# Altium schematic symbol library CapElect_passive.SchLib: 9 symbols
Pins are listed as number, name and electrical type; pins without a type are passive.

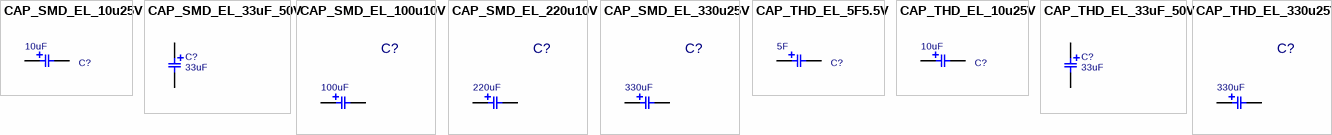
[diagram p0: symbols CAP_SMD_EL_10u25V to CAP_THD_EL_330u25V]

## CAP_SMD_EL_10u25V
designator C?, comment 10uF
CAP, SMD, ELEC, 10uF, 25V; MANF_P#: MANF_PART#; PARAM: 25V; MANF: MANF; PARAM2: PARAM2; VALUE: 10uF
footprint C_EL_4 (Electrolytic Capacitor, D: 4.3mm)
pins: 1, 2

## CAP_SMD_EL_33uF_50V
designator C?, comment 33uF
CAP, THD, ELEC; PARAM: 20%, 40mOhm, -55~125oC; DESC: Aluminum Organic Polymer; MANF: United Chemi-Con; MANF_P#: HHXB500ARA330MF80G; PARAM2: 50V; PRICE: 0.14$; VALUE: 33uF
footprint C_EL_6_8 (Footprint not found)
pins: 1, 2

## CAP_SMD_EL_100u10V
designator C?, comment 100uF
CAP, SMDD, ELEC, 100uF, 10V; MANF_P#: 875105242010; MANF: Wurth Electronics; DESC: Aluminum Organic Polymer; DIST#: MOUSER; PARAM: 20%, 30mOhmESR, -55~105oC; PRICE: 0.56$; PARAM2: 10V; ASSEMBLY: ASSEMBLY; VALUE: 100uF
footprint C_EL_5 (Electrolytic Cap, D: 5.0mm, L: 5.8mm, Size C)
pins: 1, 2

## CAP_SMD_EL_220u10V
designator C?, comment 220uF
CAP, SMDD, ELEC, 220uF, 10V; MANF_P#: 875105244013; MANF: Wurth Electronics; DESC: Aluminum Organic Polymer; DIST#: MOUSER; PARAM: 20%, 30mOhmESR, -55~105oC; PRICE: 0.66$; PARAM2: 10V; ASSEMBLY: ASSEMBLY; VALUE: 220uF
footprint C_EL_6_6 (Electrolytic Cap, D: 6.3mm L: 5.8mm, Size D)
pins: 1, 2

## CAP_SMD_EL_330u25V
designator C?, comment 330uF
CAP, SMDD, ELEC, 330uF, 25V; MANF_P#: EEE-1EA331UP; PARAM2: 20%; MANF: PANASONIC; DESC: DESCRIPTION; DIST#: MOUSER; PRICE: 10= 5$; ASSEMBLY: ASSEMBLY; PARAM: 25V; VALUE: 330uF
footprint C_EL_8 (Electrolytic Capacitor, Size E, Size F, 8X10)
pins: 1, 2

## CAP_THD_EL_5F5.5V
designator C?, comment 5F
CAP, SMD, ELEC, 5F, 5.5V; MANF: Illinois Capacitor; MANF_P#: DGH505Q5R5; PARAM: 5F; PARAM2: 5.5V; PRICE: 4.6$; VALUE: 5F
footprint C_EL_26X13X27 (Cap Elec, 26X13X27mm, 18mm pitch)
pins: 1, 2

## CAP_THD_EL_10u25V
designator C?, comment 10uF
CAP, THD, ELEC, 10uF, 25V; MANF_P#: MANF_PART#; PARAM: 25V; MANF: MANF; PARAM2: PARAM2; VALUE: 10uF
footprint C_EL_4X7 (Cap Elec dia:4mm height: 7mm pitch: 1.5mm)
pins: 1, 2

## CAP_THD_EL_33uF_50V
designator C?, comment 33uF
CAP, THD, ELEC; PARAM: 20%, -40~105oC; DESC: Aluminum Electrolytic Capacitors; MANF: Wurth Electronics; MANF_P#: 860020672012; PARAM2: 50V; PRICE: 0.14$; VALUE: 33uF
footprint C_EL_5X11 (Cap Elec, D5.0X11.0H pitch: 2mm)
pins: 1, 2

## CAP_THD_EL_330u25V
designator C?, comment 330uF
CAP, THD, ELEC, 330uF, 25V; MANF_P#: EEE-1EA331UP; PARAM2: 20%; MANF: PANASONIC; DESC: DESCRIPTION; DIST#: MOUSER; PRICE: 10= 5$; ASSEMBLY: ASSEMBLY; PARAM: 25V; VALUE: 330uF
footprint C_EL_8X12 (Cap Elec dia:8mm height: 12mm pitch: 3.5mm)
pins: 1, 2